# Altium footprint library fet.PcbLib: 8 footprints
Each footprint in its own frame and in the unit in brackets; x right, y up, seen from the top. Pads: shape width x height; smd on the part's side, far side on the other; paste and mask are expansions set on the pad; w line width, h text height; cw(c..) or ccw(c..) is an arc to the next point about the centre after c.
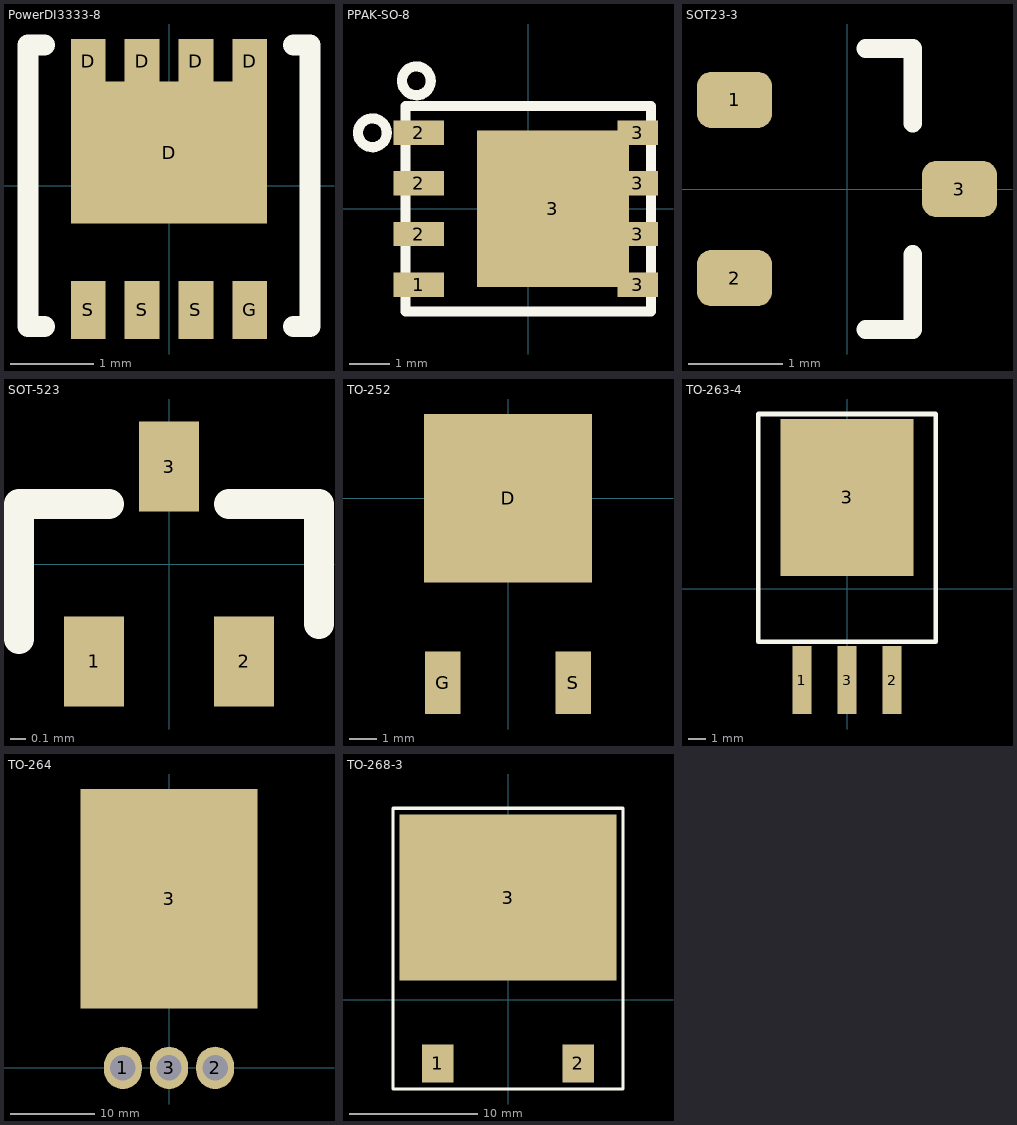
[diagram p0: the footprints below, top view; thin cyan lines are the x and y axes]

## PowerDI3333-8 [mm]
pads (9):
  rect 0.42x0.54 smd: D(-0.975,1.5) D(-0.325,1.5) D(0.325,1.5) D(0.975,1.5)
  rect 2.37x1.71 smd: D(0,0.4)
  rect 0.42x0.7 smd: G(0.975,-1.5) S(-0.975,-1.5) S(-0.325,-1.5) S(0.325,-1.5)
Top Overlay:
  lines w0.254: -1.5,-1.7 -1.7,-1.7 -1.7,1.7 -1.5,1.7 ; 1.5,-1.7 1.7,-1.7 1.7,1.7 1.5,1.7
3D body: height 0.85, standoff 0, extent -1.7,-1.7 1.7,1.7

## PPAK-SO-8 [mm]
height 1
pads (9):
  rect 1.27x0.61 smd: 1(-2.74,-1.905) 2(-2.74,-0.635) 2(-2.74,0.635) 2(-2.74,1.905)
  rect 3.81x3.91 smd: 3(0.62,0)
  rect 1.02x0.61 smd: 3(2.74,-1.905) 3(2.74,-0.635) 3(2.74,0.635) 3(2.74,1.905)
Top Overlay:
  circle w0.254: c-3.9,1.9 r0.361
  circle w0.254: c-2.8,3.2 r0.361
  lines w0.254: -3.075,-2.575 -3.075,2.575 3.075,2.575 3.075,-2.575 -3.075,-2.575
3D body: height 1, standoff 0, extent -3.075,-2.575 3.075,2.575

## SOT23-3 [mm]
pads (3):
  rrect50% 0.8x0.6 smd: 1(-1.2,0.95) 2(-1.2,-0.95) 3(1.2,0)
Top Overlay:
  lines w0.2: 0.2,-1.5 0.7,-1.5 0.7,-0.7 ; 0.2,1.5 0.7,1.5 0.7,0.7
3D body "SW3dPS-sot-3p290x130ll237h100.STEP": height 1, standoff 0, extent -1.16,-1.45 1.21,1.45

## SOT-523 [mm]
pads (3):
  rect 0.4x0.6 smd: 1(-0.5,-0.65) 2(0.5,-0.65) 3(0,0.65)
Top Overlay:
  lines w0.2: -1,-0.5 -1,0.4 -0.4,0.4 ; 0.4,0.4 1,0.4 1,-0.4
3D body "SC-75.stp": height 0.95, standoff 0, extent -0.9,-0.9 0.9,0.9

## TO-252 [mm]
pads (3):
  rect 6.2x6.2 smd: D(0,0)
  rect 1.3x2.3 smd: G(-2.4,-6.8) S(2.4,-6.8)
3D body "User Library-DPAK-1.step": height 2.44, standoff 0.03, extent -3.27,-7.311 3.27,2.628

## TO-263-4 [mm]
pads (4):
  rect 1.05x3.82 smd: 1(-2.54,-5.15) 2(2.54,-5.15) 3(0,-5.15)
  rect 7.48x8.85 smd: 3(0,5.15)
Top Overlay:
  lines w0.254: -5,-3 5,-3 5,9.85 -5,9.85 -5,-3
3D body "to-263.STEP": height 4.3, standoff 0, extent -5,-6.88 5,9

## TO-264 [mm]
pads (4):
  oval 4.5x5 hole 3: 1(-5.46,0) 2(5.46,0) 3(0,0)
  rect 21x26 smd: 3(0,20)

## TO-268-3 [mm]
pads (3):
  rect 2.5x3 smd: 1(-5.5,-5) 2(5.5,-5)
  rect 17x13 smd: 3(0,8)
Top Overlay:
  lines w0.254: -9,-7 9,-7 9,15 -9,15 -9,-7
3D body "User Library-TO545P1905X510_HS-3.STEP": height 5.1, standoff 0, extent -8.001,-5.95 8.001,13.1